# EAGLE library part MCP47X6 (library firefly)
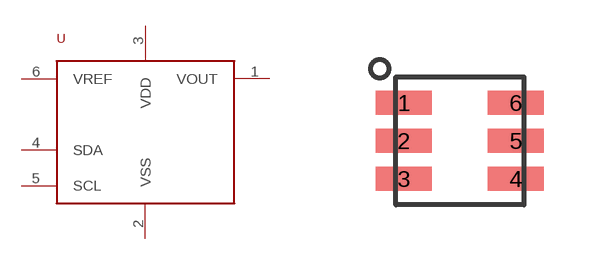
[diagram p32: symbol with the pads of SOT-23-6; footprint SOT-23-6]

Designator prefix -

## MCP47X6  [SOT-23-6]
1  VOUT
2  VSS
3  VDD
4  SDA
5  SCL
6  VREF

## Footprint SOT-23-6 (pad centres in mm)
smd 1.4 x 0.6: 1 -1.4,0.95; 2 -1.4,0; 3 -1.4,-0.95; 4 1.4,-0.95; 5 1.4,0; 6 1.4,0.95